# Altium footprint library RC0402JR-071KL.PcbLib: 3 footprints
Each footprint in its own frame and in the unit in brackets; x right, y up, seen from the top. Pads: shape width x height; smd on the part's side, far side on the other; paste and mask are expansions set on the pad; w line width, h text height; cw(c..) or ccw(c..) is an arc to the next point about the centre after c.
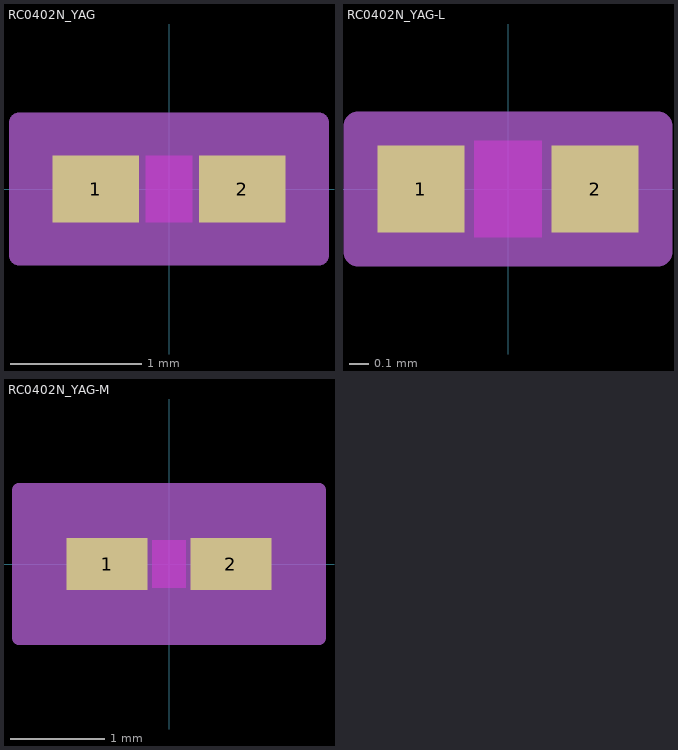
[diagram p0: the footprints below, top view; thin cyan lines are the x and y axes]

## RC0402N_YAG [mil]
pads (2):
  rect 26x20 smd paste+0 mask+0: 1(-22,0) 2(22,0)
Top Layer keep-out:
  region: -7,-8 -7,8 7,8 7,-8
Keep-Out Layer:
  region: -7,-10 -7,10 7,10 7,-10
Mechanical 13:
  lines w1: -21,-10 -21,10 ; -21,-10 -9,-10 -9,10 -21,10 ; -21,-10 21,-10 ; -21,-10 -21,10 ; -21,10 21,10 ; 21,-10 9,-10 9,10 21,10 ; 21,-10 21,10 ; 21,-10 21,10
Mechanical 15:
  region: 45,-20 -45,-20 -45,20 45,20
  lines w6: -45,-20 -45,20 45,20 45,-20 -45,-20
3D body "RC0402N_YAG.step": height 27.99, standoff 0, extent -20.98,-10 20.98,10

## RC0402N_YAG-L [mil]
pads (2):
  rect 18x18 smd paste+0 mask+0: 1(-18,0) 2(18,0)
Top Layer keep-out:
  region: -7,-8 -7,8 7,8 7,-8
Keep-Out Layer:
  region: -7,-10 -7,10 7,10 7,-10
Mechanical 13:
  lines w1: -21,-10 -21,10 ; -21,-10 -9,-10 -9,10 -21,10 ; -21,-10 21,-10 ; -21,-10 -21,10 ; -21,10 21,10 ; 21,-10 9,-10 9,10 21,10 ; 21,-10 21,10 ; 21,-10 21,10
Mechanical 15:
  region: 31,-13 -31,-13 -31,13 31,13
  lines w6: -31,-13 -31,13 31,13 31,-13 -31,-13
3D body "RC0402N_YAG.step": height 27.99, standoff 0, extent -20.98,-10 20.98,10

## RC0402N_YAG-M [mil]
pads (2):
  rect 34x22 smd paste+0 mask+0: 1(-26,0) 2(26,0)
Top Layer keep-out:
  region: -7,-8 -7,8 7,8 7,-8
Keep-Out Layer:
  region: -7,-10 -7,10 7,10 7,-10
Mechanical 13:
  lines w1: -21,-10 -21,10 ; -21,-10 -9,-10 -9,10 -21,10 ; -21,-10 21,-10 ; -21,-10 -21,10 ; -21,10 21,10 ; 21,-10 9,-10 9,10 21,10 ; 21,-10 21,10 ; 21,-10 21,10
Mechanical 15:
  region: 63,-31 -63,-31 -63,31 63,31
  lines w6: -63,-31 -63,31 63,31 63,-31 -63,-31
3D body "RC0402N_YAG.step": height 27.99, standoff 0, extent -20.98,-10 20.98,10